# EAGLE library part DLX3416 (library DLX3416)
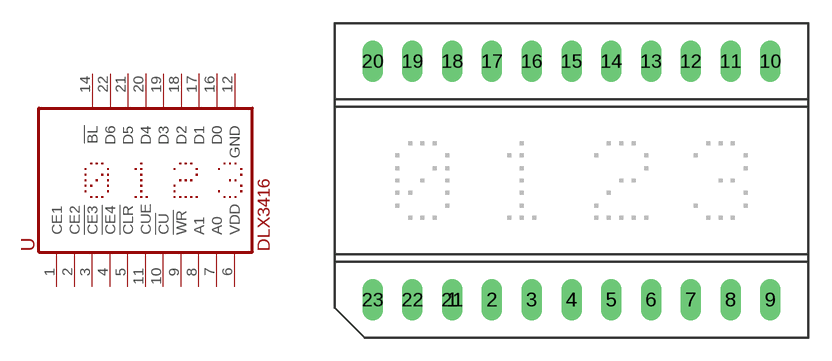
[diagram p0: symbol with the pads of DLX3416; footprint DLX3416]

Designator prefix -

## DLX3416  [DLX3416]
1  CE1  in
2  CE2  in
3  !CE3
4  !CE4
5  !CLR  in
6  VDD  pwr
7  A0  in
8  A1  in
9  !WR  in
10  !CU  in
11  CUE  in
12  GND  pwr
14  !BL  in
16  D0  in
17  D1  in
18  D2  in
19  D3  in
20  D4  in
21  D5  in
22  D6  in

## Footprint DLX3416 (pad centres in mm)
LED DISPLAY 5-mm 4 character dot matrix without decimal point
drill 0.813 long: 1 -10.16,-7.62; 2 -7.62,-7.62; 3 -5.08,-7.62; 4 -2.54,-7.62; 5 0,-7.62; 6 2.54,-7.62; 7 5.08,-7.62; 8 7.62,-7.62; 9 10.16,-7.62; 10 10.16,7.62; 11 7.62,7.62; 12 5.08,7.62; 13 2.54,7.62; 14 0,7.62; 15 -2.54,7.62; 16 -5.08,7.62; 17 -7.62,7.62; 18 -10.16,7.62; 19 -12.7,7.62; 20 -15.24,7.62; 21 -10.16,-7.62; 22 -12.7,-7.62; 23 -15.24,-7.62